# Altium footprint library TASCV1.PcbLib: 1 footprints
Each footprint in its own frame and in the unit in brackets; x right, y up, seen from the top. Pads: shape width x height; smd on the part's side, far side on the other; paste and mask are expansions set on the pad; w line width, h text height; cw(c..) or ccw(c..) is an arc to the next point about the centre after c.
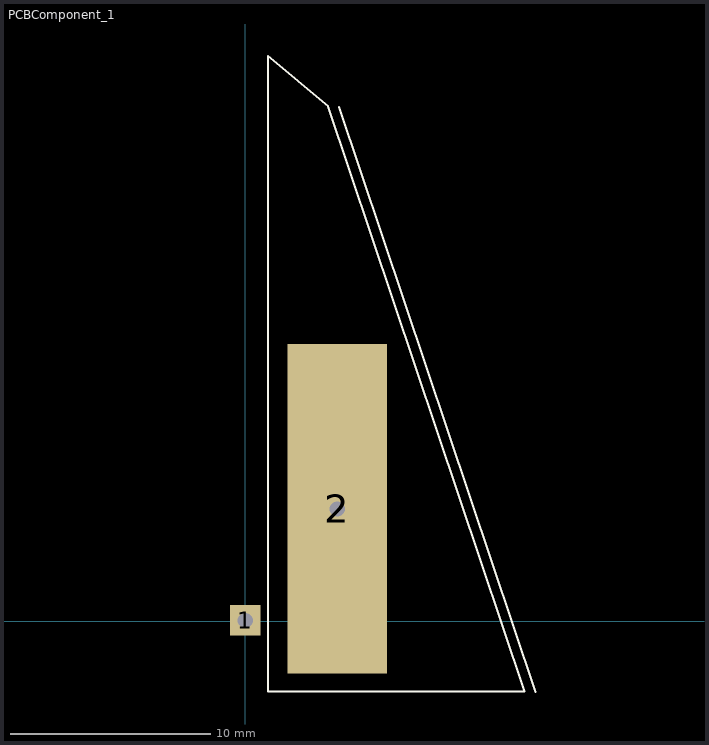
[diagram p0: the footprint, top view; thin cyan lines are the x and y axes]

## PCBComponent_1 [mm]
pads (2):
  rect 1.524x1.524 hole 0.762: 1(0,0.044)
  rect 5x16.5 hole 0.762: 2(4.6,5.625)
Top Overlay:
  lines w0.1: 4.689,25.744 14.525,-3.55 ; 1.125,-3.519 13.975,-3.519 4.139,25.775 1.125,28.3 1.125,-3.519